# EAGLE library part LEDMS57 (library display-matrix)
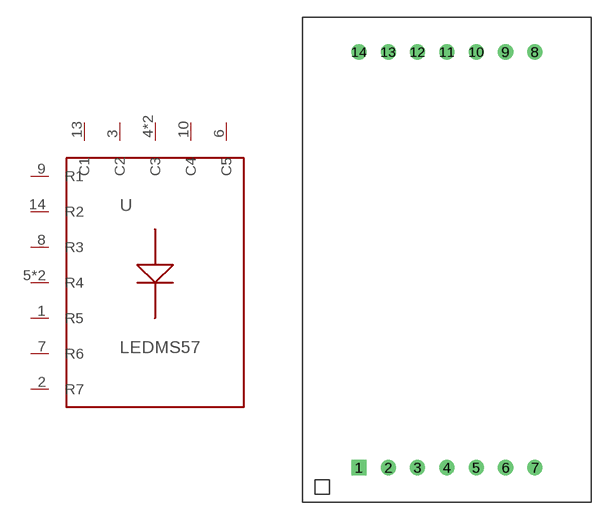
[diagram p3: symbol with the pads of MATRIX-42X25; footprint MATRIX-42X25]

Designator prefix -

## LEDMS57O42X25, LEDMS57R42X25  [MATRIX-42X25]
1  R5  out
2  R7  out
3  C2  in
4  C3  in
5  R4  out
6  C5  in
7  R6  out
8  R3  out
9  R1  out
10  C4  in
11  C3  in
12  R4  out
13  C1  in
14  R2  out

## Footprint MATRIX-42X25 (pad centres in mm)
drill 0.8 square: 1 -7.62,-18
drill 0.8: 2 -5.08,-18; 3 -2.54,-18; 4 0,-18; 5 2.54,-18; 6 5.08,-18; 7 7.62,-18; 8 7.62,18; 9 5.08,18; 10 2.54,18; 11 0,18; 12 -2.54,18; 13 -5.08,18; 14 -7.62,18